# EAGLE library part MOD50MM (library zkseagle)
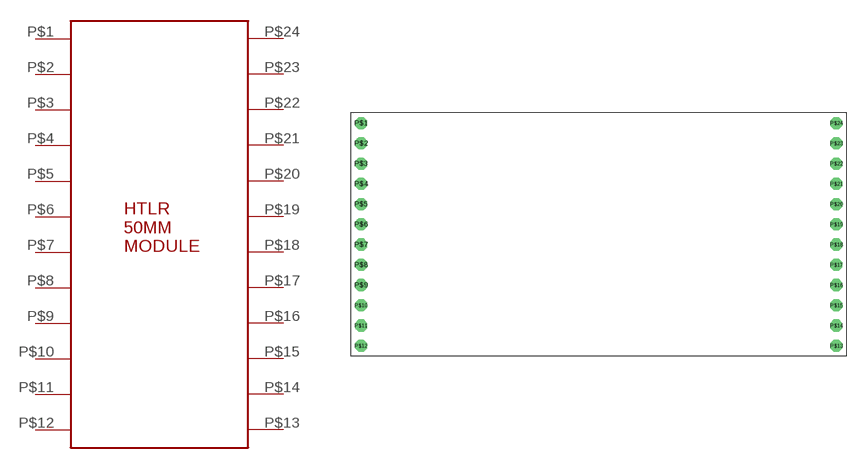
[diagram p5: symbol with the pads of MOD50MM_P; footprint MOD50MM_P]

Designator prefix -

## MOD50MM  [MOD50MM_P]
P$1  P$1
P$2  P$2
P$3  P$3
P$4  P$4
P$5  P$5
P$6  P$6
P$7  P$7
P$8  P$8
P$9  P$9
P$10  P$10
P$11  P$11
P$12  P$12
P$13  P$13
P$14  P$14
P$15  P$15
P$16  P$16
P$17  P$17
P$18  P$18
P$19  P$19
P$20  P$20
P$21  P$21
P$22  P$22
P$23  P$23
P$24  P$24

## Footprint MOD50MM_P (pad centres in mm)
drill 1 pad 1.524 octagon: P$1 0,27.94; P$2 0,25.4; P$3 0,22.86; P$4 0,20.32; P$5 0,17.78; P$6 0,15.24; P$7 0,12.7; P$8 0,10.16; P$9 0,7.62; P$10 0,5.08; P$11 0,2.54; P$12 0,0; P$13 59.69,0; P$14 59.69,2.54; P$15 59.69,5.08; P$16 59.69,7.62; P$17 59.69,10.16; P$18 59.69,12.7; P$19 59.69,15.24; P$20 59.69,17.78; P$21 59.69,20.32; P$22 59.69,22.86; P$23 59.69,25.4; P$24 59.69,27.94